# Altium integrated library ILD55-X009.IntLib: 1 symbol
Pins are listed as number, name and electrical type; pins without a type are passive.

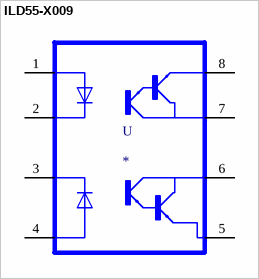
[diagram p0: symbol ILD55-X009]

## ILD55-X009
designator U
Optoisolator Darlington Output 5300Vrms 2 Channel 8-SMD; MF: Vishay; MP: ILD55-X009; Availability: Unavailable; SnapEDA_Link: https://www.snapeda.com/parts/ILD55-X009/Vishay%20Semiconductor%20Opto%20Division/view-part/1043862/?ref=snap; Package: SMD-8 Vishay Semiconductor; Value: *; Price: None
footprint SOIC254P1030X460-8N
pins: 1 A1, 2 C1, 3 C2, 4 A2, 5 E1, 6 CO1, 7 CO2, 8 E2